# Altium footprint library ic_tsop.PcbLib: 9 footprints
Each footprint in its own frame and in the unit in brackets; x right, y up, seen from the top. Pads: shape width x height; smd on the part's side, far side on the other; paste and mask are expansions set on the pad; w line width, h text height; cw(c..) or ccw(c..) is an arc to the next point about the centre after c.
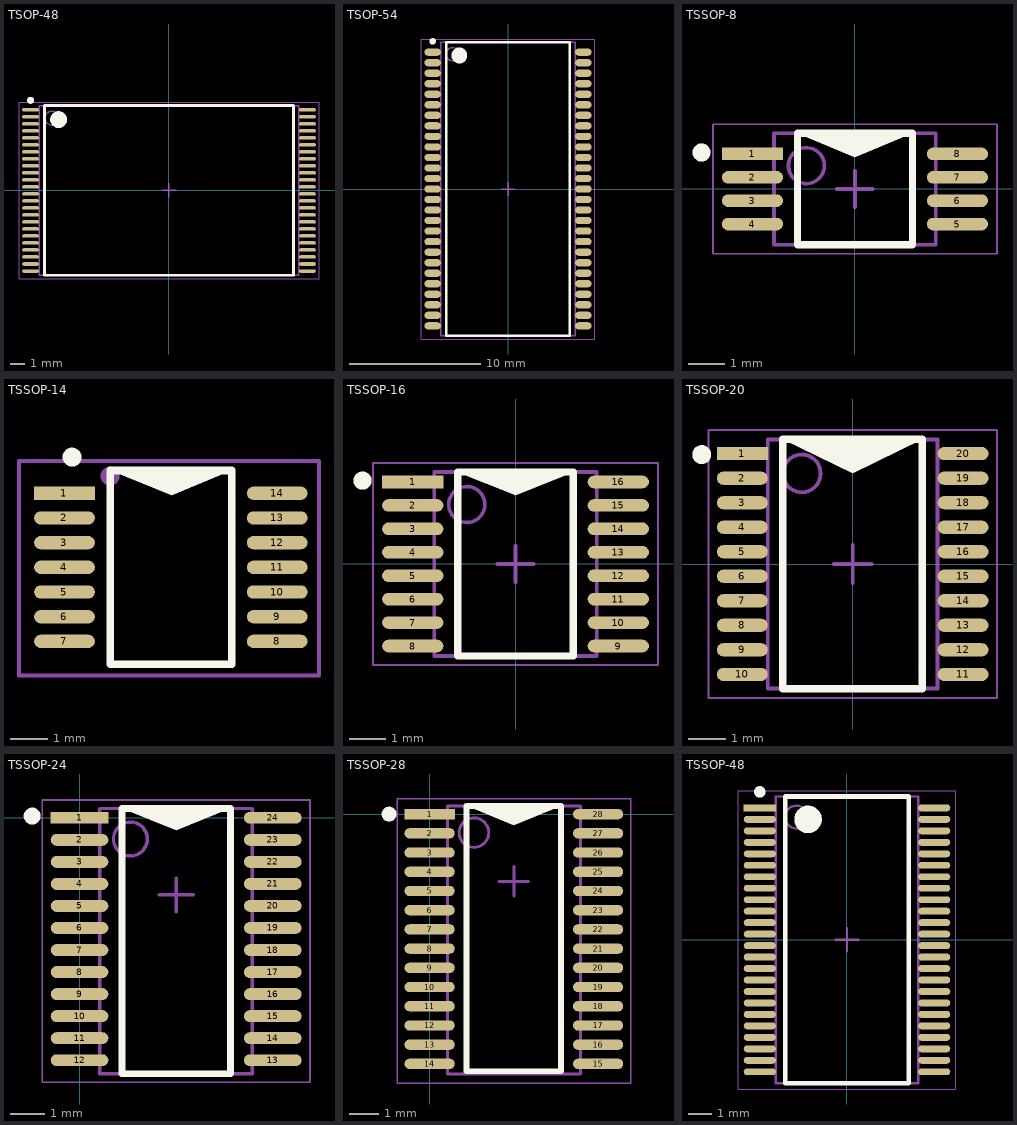
[diagram p0: the footprints below, top view; thin cyan lines are the x and y axes]

## TSOP-48 [mm]
height 1.2
pads (48):
  oval 1.2x0.25 smd: 1(-9.875,5.75) 2(-9.875,5.25) 3(-9.875,4.75) 4(-9.875,4.25) 5(-9.875,3.75) 6(-9.875,3.25) 7(-9.875,2.75) 8(-9.875,2.25) 9(-9.875,1.75) 10(-9.875,1.25) 11(-9.875,0.75) 12(-9.875,0.25) 13(-9.875,-0.25) 14(-9.875,-0.75) 15(-9.875,-1.25) 16(-9.875,-1.75) 17(-9.875,-2.25) 18(-9.875,-2.75) 19(-9.875,-3.25) 20(-9.875,-3.75) 21(-9.875,-4.25) 22(-9.875,-4.75) 23(-9.875,-5.25) 24(-9.875,-5.75) 25(9.875,-5.75) 26(9.875,-5.25) 27(9.875,-4.75) 28(9.875,-4.25) 29(9.875,-3.75) 30(9.875,-3.25) 31(9.875,-2.75) 32(9.875,-2.25) 33(9.875,-1.75) 34(9.875,-1.25) 35(9.875,-0.75) 36(9.875,-0.25) 37(9.875,0.25) 38(9.875,0.75) 39(9.875,1.25) 40(9.875,1.75) 41(9.875,2.25) 42(9.875,2.75) 43(9.875,3.25) 44(9.875,3.75) 45(9.875,4.25) 46(9.875,4.75) 47(9.875,5.25) 48(9.875,5.75)
Top Overlay:
  circle w0.25: c-9.875,6.425 r0.125
  circle w0.6: c-7.875,5.05 r0.3
  lines w0.2: -8.875,-6.05 -8.875,6.05 8.875,6.05 8.875,-6.05 -8.875,-6.05
Mechanical 13:
  circle w0.1: c-8.35,5.15 r0.5
  lines w0.1: -9.25,-6.05 -9.25,6.05 9.25,6.05 9.25,-6.05 -9.25,-6.05
Mechanical 15:
  lines w0.05: -10.7,-6.3 -10.7,6.3 10.7,6.3 10.7,-6.3 -10.7,-6.3
  lines w0.1: -0.5,0 0.5,0 ; 0,-0.5 0,0.5
3D body "TSOP48-1.STEP": height 1.2, standoff 0, extent -10.1,-6.05 10.1,6.05

## TSOP-54 [mm]
height 1.2
pads (54):
  oval 1.25x0.55 smd: 1(-5.725,10.4) 2(-5.725,9.6) 3(-5.725,8.8) 4(-5.725,8) 5(-5.725,7.2) 6(-5.725,6.4) 7(-5.725,5.6) 8(-5.725,4.8) 9(-5.725,4) 10(-5.725,3.2) 11(-5.725,2.4) 12(-5.725,1.6) 13(-5.725,0.8) 14(-5.725,0) 15(-5.725,-0.8) 16(-5.725,-1.6) 17(-5.725,-2.4) 18(-5.725,-3.2) 19(-5.725,-4) 20(-5.725,-4.8) 21(-5.725,-5.6) 22(-5.725,-6.4) 23(-5.725,-7.2) 24(-5.725,-8) 25(-5.725,-8.8) 26(-5.725,-9.6) 27(-5.725,-10.4) 28(5.725,-10.4) 29(5.725,-9.6) 30(5.725,-8.8) 31(5.725,-8) 32(5.725,-7.2) 33(5.725,-6.4) 34(5.725,-5.6) 35(5.725,-4.8) 36(5.725,-4) 37(5.725,-3.2) 38(5.725,-2.4) 39(5.725,-1.6) 40(5.725,-0.8) 41(5.725,0) 42(5.725,0.8) 43(5.725,1.6) 44(5.725,2.4) 45(5.725,3.2) 46(5.725,4) 47(5.725,4.8) 48(5.725,5.6) 49(5.725,6.4) 50(5.725,7.2) 51(5.725,8) 52(5.725,8.8) 53(5.725,9.6) 54(5.725,10.4)
Top Overlay:
  circle w0.25: c-5.725,11.225 r0.125
  circle w0.6: c-3.7,10.15 r0.3
  lines w0.2: -4.7,-11.15 -4.7,11.15 4.7,11.15 4.7,-11.15 -4.7,-11.15
Mechanical 13:
  circle w0.1: c-4.2,10.25 r0.5
  lines w0.1: -5.1,-11.15 -5.1,11.15 5.1,11.15 5.1,-11.15 -5.1,-11.15
Mechanical 15:
  lines w0.05: -6.6,-11.4 -6.6,11.4 6.6,11.4 6.6,-11.4 -6.6,-11.4
  lines w0.1: -0.5,0 0.5,0 ; 0,-0.5 0,0.5
3D body "TSOP2-54.STEP": height 1.25, standoff -0.45, extent -5.86,-11.12 5.9,11.1

## TSSOP-8 [mm] "TSOP, 8-Leads, Body 3,00x4,40mm, Pitch 0,65mm, IPC Medium Density"
height 1.2
pads (8):
  rect 1.7x0.35 smd: 1(-2.85,0.975)
  oval 1.7x0.35 smd: 2(-2.85,0.325) 3(-2.85,-0.325) 4(-2.85,-0.975) 5(2.85,-0.975) 6(2.85,-0.325) 7(2.85,0.325) 8(2.85,0.975)
Top Overlay:
  circle w0.25: c-4.268,1.016 r0.125
  region: -1.6,1.55 1.6,1.55 0,0.889
  lines w0.2: -1.6,-1.55 1.6,-1.55 1.6,1.55 -1.6,1.55 -1.6,-1.55
Mechanical 13:
  circle w0.1: c-1.35,0.65 r0.5
  lines w0.1: -2.25,-1.55 2.25,-1.55 2.25,1.55 -2.25,1.55 -2.25,-1.55
Mechanical 15:
  lines w0.05: -3.95,-1.8 3.95,-1.8 3.95,1.8 -3.95,1.8 -3.95,-1.8
  lines w0.1: -0.5,0 0.5,0 ; 0,-0.5 0,0.5
3D body "TSSOP-8.step": height 1.2, standoff 0, extent -3.228,-1.5 3.228,1.5

## TSSOP-14 [mm] "TSOP, 14-Leads, Body 5,00x4,40mm, Pitch 0,65mm, IPC Medium Density"
height 0.95
pads (14):
  rect 1.6x0.35 smd: 1(-11.2,7.8)
  oval 1.6x0.35 smd: 2(-11.2,7.15) 3(-11.2,6.5) 4(-11.2,5.85) 5(-11.2,5.2) 6(-11.2,4.55) 7(-11.2,3.9) 8(-5.6,3.9) 9(-5.6,4.55) 10(-5.6,5.2) 11(-5.6,5.85) 12(-5.6,6.5) 13(-5.6,7.15) 14(-5.6,7.8)
Top Overlay:
  circle w0.25: c-11,8.75 r0.125
  region: -10,8.4 -6.8,8.4 -8.382,7.747
  lines w0.2: -10,3.3 -6.8,3.3 -6.8,8.4 -10,8.4 -10,3.3
Mechanical 29:
  circle w0.25: c-10,8.25 r0.125
  lines w0.1: -12.398,3 -4.5,3 -4.5,8.65 -12.398,8.65 -12.398,3
  text ".Designator" at -11.75,5.75 h1.5
3D body "TSSOP14-2.step": height 1.2, standoff 0, extent -11.6,3.3 -5.2,8.4

## TSSOP-16 [mm] "TSOP, 16-Leads, Body 5,00x4,40mm, Pitch 0,65mm, IPC Medium Density"
height 1.2
pads (16):
  rect 1.7x0.35 smd: 1(-2.85,2.275)
  oval 1.7x0.35 smd: 2(-2.85,1.625) 3(-2.85,0.975) 4(-2.85,0.325) 5(-2.85,-0.325) 6(-2.85,-0.975) 7(-2.85,-1.625) 8(-2.85,-2.275) 9(2.85,-2.275) 10(2.85,-1.625) 11(2.85,-0.975) 12(2.85,-0.325) 13(2.85,0.325) 14(2.85,0.975) 15(2.85,1.625) 16(2.85,2.275)
Top Overlay:
  circle w0.25: c-4.242,2.311 r0.125
  region: -1.6,2.55 1.6,2.55 0,1.905
  lines w0.2: -1.6,-2.55 1.6,-2.55 1.6,2.55 -1.6,2.55 -1.6,-2.55
Mechanical 13:
  circle w0.1: c-1.35,1.65 r0.5
  lines w0.1: -2.25,-2.55 2.25,-2.55 2.25,2.55 -2.25,2.55 -2.25,-2.55
Mechanical 15:
  lines w0.05: -3.95,-2.8 3.95,-2.8 3.95,2.8 -3.95,2.8 -3.95,-2.8
  lines w0.1: -0.5,0 0.5,0 ; 0,-0.5 0,0.5
3D body "TSSOP-16.step": height 1, standoff 0, extent -3.2,-2.5 3.2,2.5

## TSSOP-20 [mm] "TSOP, 20-Leads, Body 6,50x4,40mm, Pitch 0,65mm, IPC Medium Density"
height 1.2
pads (20):
  rect 1.35x0.35 smd: 1(-2.925,2.925)
  oval 1.35x0.35 smd: 2(-2.925,2.275) 3(-2.925,1.625) 4(-2.925,0.975) 5(-2.925,0.325) 6(-2.925,-0.325) 7(-2.925,-0.975) 8(-2.925,-1.625) 9(-2.925,-2.275) 10(-2.925,-2.925) 11(2.925,-2.925) 12(2.925,-2.275) 13(2.925,-1.625) 14(2.925,-0.975) 15(2.925,-0.325) 16(2.925,0.325) 17(2.925,0.975) 18(2.925,1.625) 19(2.925,2.275) 20(2.925,2.925)
Top Overlay:
  circle w0.25: c-4,2.9 r0.125
  region: -1.85,3.3 1.85,3.3 0,2.4
  lines w0.2: -1.85,-3.3 -1.85,3.3 1.85,3.3 1.85,-3.3 -1.85,-3.3
Mechanical 13:
  circle w0.1: c-1.35,2.4 r0.5
  lines w0.1: -2.25,-3.3 -2.25,3.3 2.25,3.3 2.25,-3.3 -2.25,-3.3
Mechanical 15:
  lines w0.05: -3.825,-3.55 -3.825,3.55 3.825,3.55 3.825,-3.55 -3.825,-3.55
  lines w0.1: -0.5,0 0.5,0 ; 0,-0.5 0,0.5
3D body "tssop-20-1.step": height 1.2, standoff 0, extent -3.3,-3.3 3.3,3.3

## TSSOP-24 [mm]
pads (24):
  rect 1.7x0.35 smd: 1(0,0)
  oval 1.7x0.35 smd: 2(0,-0.65) 3(0,-1.3) 4(0,-1.95) 5(0,-2.6) 6(0,-3.25) 7(0,-3.9) 8(0,-4.55) 9(0,-5.2) 10(0,-5.85) 11(0,-6.5) 12(0,-7.15) 13(5.7,-7.15) 14(5.7,-6.5) 15(5.7,-5.85) 16(5.7,-5.2) 17(5.7,-4.55) 18(5.7,-3.9) 19(5.7,-3.25) 20(5.7,-2.6) 21(5.7,-1.95) 22(5.7,-1.3) 23(5.7,-0.65) 24(5.7,0)
Top Overlay:
  circle w0.25: c-1.397,0.051 r0.125
  region: 1.25,0.275 4.45,0.275 2.85,-0.37
  lines w0.2: 1.25,-7.55 1.25,0.275 4.45,0.275 4.45,-7.55 1.25,-7.55
Mechanical 13:
  circle w0.1: c1.5,-0.625 r0.5
  lines w0.1: 0.6,-7.55 0.6,0.275 5.1,0.275 5.1,-7.55 0.6,-7.55
Mechanical 15:
  lines w0.05: -1.1,-7.8 -1.1,0.525 6.8,0.525 6.8,-7.8 -1.1,-7.8
  lines w0.1: 2.35,-2.275 3.35,-2.275 ; 2.85,-2.775 2.85,-1.775
3D body "TSSOP-24.step": height 1.2, standoff 0, extent -0.428,-7.525 6.128,0.375

## TSSOP-28 [mm]
pads (28):
  rect 1.7x0.35 smd: 1(0,0)
  oval 1.7x0.35 smd: 2(0,-0.65) 3(0,-1.3) 4(0,-1.95) 5(0,-2.6) 6(0,-3.25) 7(0,-3.9) 8(0,-4.55) 9(0,-5.2) 10(0,-5.85) 11(0,-6.5) 12(0,-7.15) 13(0,-7.8) 14(0,-8.45) 15(5.7,-8.45) 16(5.7,-7.8) 17(5.7,-7.15) 18(5.7,-6.5) 19(5.7,-5.85) 20(5.7,-5.2) 21(5.7,-4.55) 22(5.7,-3.9) 23(5.7,-3.25) 24(5.7,-2.6) 25(5.7,-1.95) 26(5.7,-1.3) 27(5.7,-0.65) 28(5.7,0)
Top Overlay:
  circle w0.25: c-1.372,0 r0.125
  region: 1.25,0.275 4.45,0.275 2.85,-0.37
  lines w0.2: 1.25,-8.7 1.25,0.275 4.45,0.275 4.45,-8.7 1.25,-8.7
Mechanical 13:
  circle w0.1: c1.5,-0.625 r0.5
  lines w0.1: 0.6,-8.8 0.6,0.275 5.1,0.275 5.1,-8.8 0.6,-8.8
Mechanical 15:
  lines w0.05: -1.1,-9.1 -1.1,0.525 6.8,0.525 6.8,-9.1 -1.1,-9.1
  lines w0.1: 2.35,-2.275 3.35,-2.275 ; 2.85,-2.775 2.85,-1.775
3D body "TSSOP-28.STEP": height 0.97, standoff -0.02, extent -0.35,-9.076 6.05,0.624

## TSSOP-48 [mm]
pads (48):
  rect 1.4x0.3 smd: 1(-3.8,5.75)
  oval 1.4x0.3 smd: 2(-3.8,5.25) 3(-3.8,4.75) 4(-3.8,4.25) 5(-3.8,3.75) 6(-3.8,3.25) 7(-3.8,2.75) 8(-3.8,2.25) 9(-3.8,1.75) 10(-3.8,1.25) 11(-3.8,0.75) 12(-3.8,0.25) 13(-3.8,-0.25) 14(-3.8,-0.75) 15(-3.8,-1.25) 16(-3.8,-1.75) 17(-3.8,-2.25) 18(-3.8,-2.75) 19(-3.8,-3.25) 20(-3.8,-3.75) 21(-3.8,-4.25) 22(-3.8,-4.75) 23(-3.8,-5.25) 24(-3.8,-5.75) 25(3.8,-5.75) 26(3.8,-5.25) 27(3.8,-4.75) 28(3.8,-4.25) 29(3.8,-3.75) 30(3.8,-3.25) 31(3.8,-2.75) 32(3.8,-2.25) 33(3.8,-1.75) 34(3.8,-1.25) 35(3.8,-0.75) 36(3.8,-0.25) 37(3.8,0.25) 38(3.8,0.75) 39(3.8,1.25) 40(3.8,1.75) 41(3.8,2.25) 42(3.8,2.75) 43(3.8,3.25) 44(3.8,3.75) 45(3.8,4.25) 46(3.8,4.75) 47(3.8,5.25) 48(3.8,5.75)
Top Overlay:
  circle w0.6: c-1.7,5.25 r0.3
  circle w0.25: c-3.8,6.45 r0.125
  lines w0.2: -2.7,-6.25 2.7,-6.25 2.7,6.25 -2.7,6.25 -2.7,-6.25
Mechanical 13:
  circle w0.1: c-2.2,5.35 r0.5
  lines w0.1: -3.1,-6.25 3.1,-6.25 3.1,6.25 -3.1,6.25 -3.1,-6.25
Mechanical 15:
  lines w0.05: -4.75,-6.5 4.75,-6.5 4.75,6.5 -4.75,6.5 -4.75,-6.5
  lines w0.1: -0.5,0 0.5,0 ; 0,-0.5 0,0.5
3D body "TSSOP-48 12_6x6_2.STEP": height 1.1, standoff 0, extent -4.05,-6.3 3.95,6.3